# Altium footprint library C45783.PcbLib: 1 footprints
Each footprint in its own frame and in the unit in brackets; x right, y up, seen from the top. Pads: shape width x height; smd on the part's side, far side on the other; paste and mask are expansions set on the pad; w line width, h text height; cw(c..) or ccw(c..) is an arc to the next point about the centre after c.
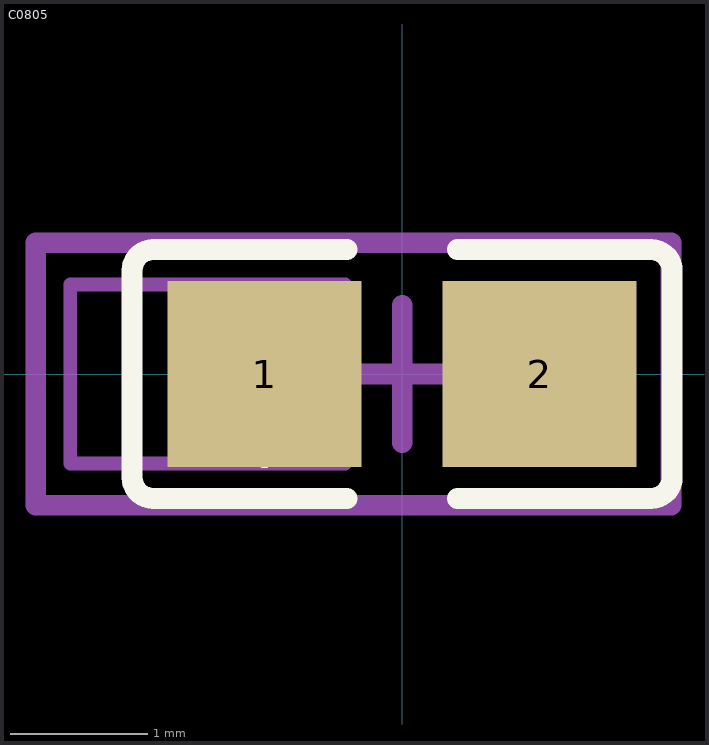
[diagram p0: the footprint, top view; thin cyan lines are the x and y axes]

## C0805 [mm] "22uF ±20% 25V Ceramic Capacitor X5R 0805"
pads (2):
  rect 1.41x1.35 smd: 1(-1,0) 2(1,0)
Top Overlay:
  circle w0.06: c-1,-0.625 r0.03
  lines w0.152: -0.401,-0.904 -1.811,-0.904 cw(c-1.811,-0.751) -1.964,-0.751 -1.964,0.751 cw(c-1.811,0.751) -1.811,0.904 -0.401,0.904 ; 0.401,-0.904 1.811,-0.904 ccw(c1.811,-0.751) 1.964,-0.751 1.964,0.751 ccw(c1.811,0.751) 1.811,0.904 0.401,0.904
Top Paste:
  region: -1.705,-0.64 -1.705,0.64 -1.655,0.69 -0.505,0.69 -0.455,0.64 -0.45,0.23 -0.9,0.23 -0.9,-0.22 -0.46,-0.22 -0.455,-0.64 -0.505,-0.69 -1.655,-0.69
  region: 1.705,0.64 1.705,-0.64 1.655,-0.69 0.505,-0.69 0.455,-0.64 0.45,-0.23 0.9,-0.23 0.9,0.22 0.46,0.22 0.455,0.64 0.505,0.69 1.655,0.69
AOI:
  region: -1,-0.625 -1,0.625 -0.5,0.625 -0.5,-0.625
  region: 1,0.625 1,-0.625 0.5,-0.625 0.5,0.625
Top 3D Body:
  lines w0.1: -2.413,-0.65 -0.413,-0.65 -0.413,0.65 -2.413,0.65 -2.413,-0.65
Top Courtyard:
  lines w0.15: -0.5,0 0.5,0 ; 0,-0.5 0,0.5 ; -2.663,-0.955 1.955,-0.955 1.955,0.955 -2.663,0.955 -2.663,-0.955
3D body "C0805.step": height 0.03, standoff 0, extent -2.413,-0.65 -0.413,0.65